# EAGLE library part ADXRS620 (library ADXRS620)
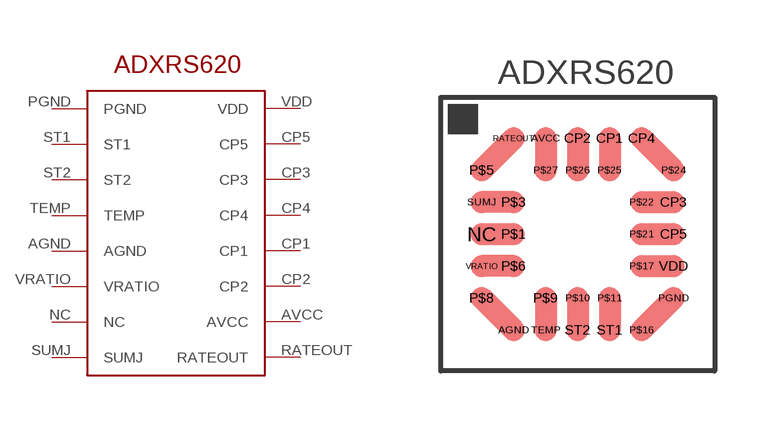
[diagram p0: symbol with the pads of ADXRS620; footprint ADXRS620]

Designator prefix -

## ADXRS620  [ADXRS620]
AGND  AGND
AVCC  AVCC
CP1  CP1
CP2  CP2
CP3  CP3
CP4  CP4
CP5  CP5
NC  NC
PGND  PGND
RATEOUT  RATEOUT
ST1  ST1
ST2  ST2
SUMJ  SUMJ
TEMP  TEMP
VDD  VDD
VRATIO  VRATIO

## Footprint ADXRS620 (pad centres in mm)
smd 0.55 x 0.55: AGND -1.6,-2.4; AVCC -0.8,2.4; CP1 0.8,2.4; CP2 0,2.4; CP3 2.4,0.8; CP4 1.6,2.4; CP5 2.4,0; NC -2.4,0; P$1 -1.6,0; P$3 -1.6,0.8; P$5 -2.4,1.6; P$6 -1.6,-0.8; P$8 -2.4,-1.6; P$9 -0.8,-1.6; P$10 0,-1.6; P$11 0.8,-1.6; P$16 1.6,-2.4; P$17 1.6,-0.8; P$21 1.6,0; P$22 1.6,0.8; P$24 2.4,1.6; P$25 0.8,1.6; P$26 0,1.6; P$27 -0.8,1.6; PGND 2.4,-1.6; RATEOUT -1.6,2.4; ST1 0.8,-2.4; ST2 0,-2.4; SUMJ -2.4,0.8; TEMP -0.8,-2.4; VDD 2.4,-0.8; VRATIO -2.4,-0.8